# Altium footprint library PCB - MICROPHONE - TDK ICS‐40720.PcbLib: 1 footprints
Each footprint in its own frame and in the unit in brackets; x right, y up, seen from the top. Pads: shape width x height; smd on the part's side, far side on the other; paste and mask are expansions set on the pad; w line width, h text height; cw(c..) or ccw(c..) is an arc to the next point about the centre after c.
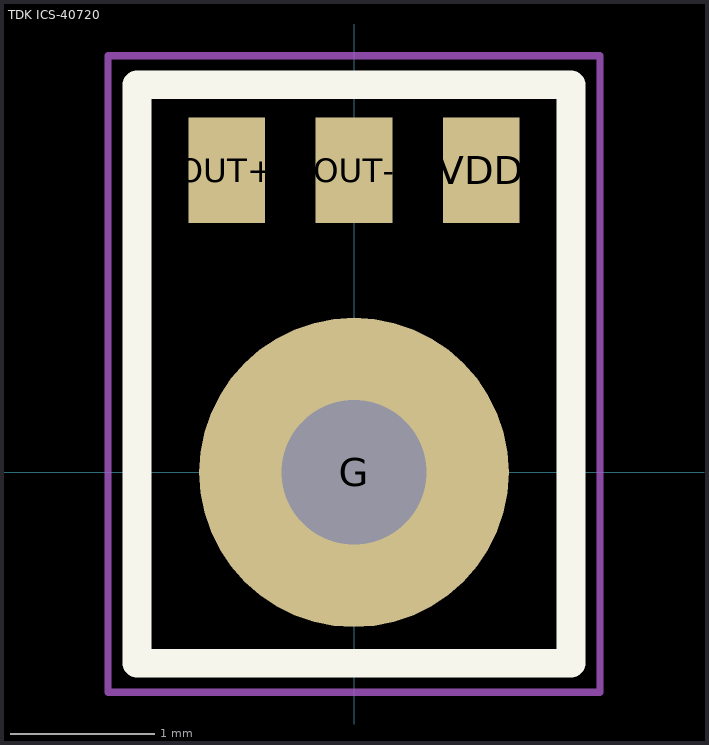
[diagram p0: the footprint, top view; thin cyan lines are the x and y axes]

## TDK ICS‐40720 [mm] "Ultra‐Low Noise Microphone with Differential Output 4x3.2"
height 1.2
pads (4):
  round 2.14 hole 1 unplated paste+0 mask+0: G(0,0)
  rect 0.53x0.73 smd: OUT+(-0.88,2.09) OUT-(0,2.09) VDD(0.88,2.09)
Top Overlay:
  lines w0.2: -1.5,-1.32 -1.5,2.68 1.5,2.68 1.5,-1.32 -1.5,-1.32
Top Paste:
  lines w0.25: -0.904,-0.275 cw(c0,0) -0.213,0.921 ; -0.691,-0.644 ccw(c0,0) 0.69,-0.646 ; 0.214,0.92 cw(c0,0) 0.904,-0.276
Top Solder:
  circle w0.3: c0,0 r0.92
Mechanical 13:
  lines w0.1: -1.5,-1.32 -1.5,2.68 1.5,2.68 1.5,-1.32 -1.5,-1.32
Mechanical 15:
  lines w0.05: -0.5,0 0.5,0 ; 0,-0.5 0,0.5 ; -1.7,-1.52 1.7,-1.52 1.7,2.88 -1.7,2.88 -1.7,-1.52
3D body "TDK - ICS-40720.step": height 1.3, standoff 0, extent -1.5,-1.32 1.5,2.68